# EAGLE library part MC14504BDTR2G (library 000_VansAircraft)
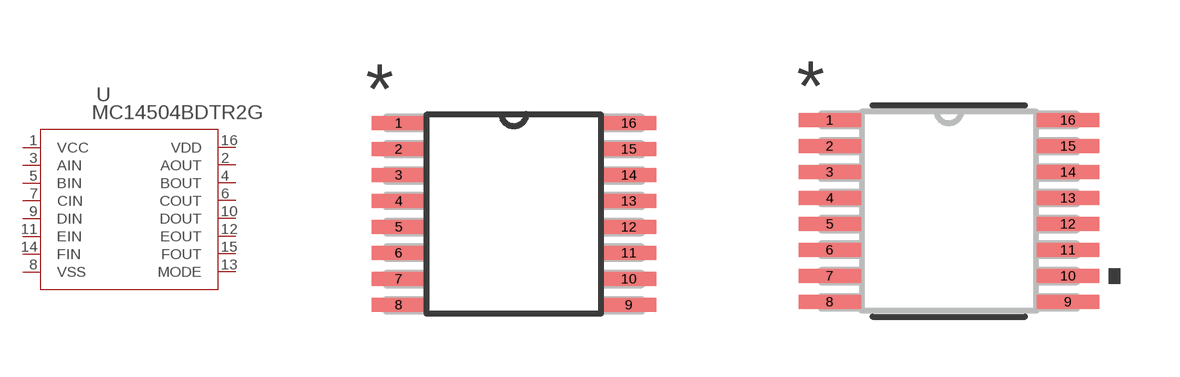
[diagram p6: symbol with the pads of TSSOP-16_ONS; footprints TSSOP-16_ONS, TSSOP-16_ONS-M]

Designator prefix U

## MC14504BDTR2G (COPYRIGHT: Copyright (C) 2025 Ultra Librarian. All rights reserved.; MANUFACTURER_NAME: onsemi; MANUFACTURER_PART_NUMBER: MC14504BDTR2G)  [TSSOP-16_ONS]
1  VCC  pwr
2  AOUT  out
3  AIN  in
4  BOUT  out
5  BIN  in
6  COUT  out
7  CIN  in
8  VSS  pwr
9  DIN  in
10  DOUT  out
11  EIN  in
12  EOUT  out
13  MODE  pas
14  FIN  in
15  FOUT  out
16  VDD  pwr

## MC14504BDTR2GTSSOP-16_ONS-M (COPYRIGHT: Copyright (C) 2025 Ultra Librarian. All rights reserved.; MANUFACTURER_NAME: onsemi; MANUFACTURER_PART_NUMBER: MC14504BDTR2G)  [TSSOP-16_ONS-M]
Pads as for TSSOP-16_ONS

## MC14504BDTR2GTSSOP-16_ONS-L (COPYRIGHT: Copyright (C) 2025 Ultra Librarian. All rights reserved.; MANUFACTURER_NAME: onsemi; MANUFACTURER_PART_NUMBER: MC14504BDTR2G)  [TSSOP-16_ONS-L]
Pads as for TSSOP-16_ONS

## Footprint TSSOP-16_ONS (pad centres in mm)
smd 1.359 x 0.356: 1 -2.877,2.275; 2 -2.877,1.625; 3 -2.877,0.975; 4 -2.877,0.325; 5 -2.877,-0.325; 6 -2.877,-0.975; 7 -2.877,-1.625; 8 -2.877,-2.275; 9 2.877,-2.275; 10 2.877,-1.625; 11 2.877,-0.975; 12 2.877,-0.325; 13 2.877,0.325; 14 2.877,0.975; 15 2.877,1.625; 16 2.877,2.275

## Footprint TSSOP-16_ONS-M (pad centres in mm)
smd 1.562 x 0.356: 1 -2.978,2.275; 2 -2.978,1.625; 3 -2.978,0.975; 4 -2.978,0.325; 5 -2.978,-0.325; 6 -2.978,-0.975; 7 -2.978,-1.625; 8 -2.978,-2.275; 9 2.978,-2.275; 10 2.978,-1.625; 11 2.978,-0.975; 12 2.978,-0.325; 13 2.978,0.325; 14 2.978,0.975; 15 2.978,1.625; 16 2.978,2.275

## Footprint TSSOP-16_ONS-L (pad centres in mm)
smd 1.156 x 0.305: 1 -2.775,2.275; 2 -2.775,1.625; 3 -2.775,0.975; 4 -2.775,0.325; 5 -2.775,-0.325; 6 -2.775,-0.975; 7 -2.775,-1.625; 8 -2.775,-2.275; 9 2.775,-2.275; 10 2.775,-1.625; 11 2.775,-0.975; 12 2.775,-0.325; 13 2.775,0.325; 14 2.775,0.975; 15 2.775,1.625; 16 2.775,2.275